# Altium footprint library BK13C06-10DS_2-0.35V_895__0.pcblib: 1 footprints
Each footprint in its own frame and in the unit in brackets; x right, y up, seen from the top. Pads: shape width x height; smd on the part's side, far side on the other; paste and mask are expansions set on the pad; w line width, h text height; cw(c..) or ccw(c..) is an arc to the next point about the centre after c.
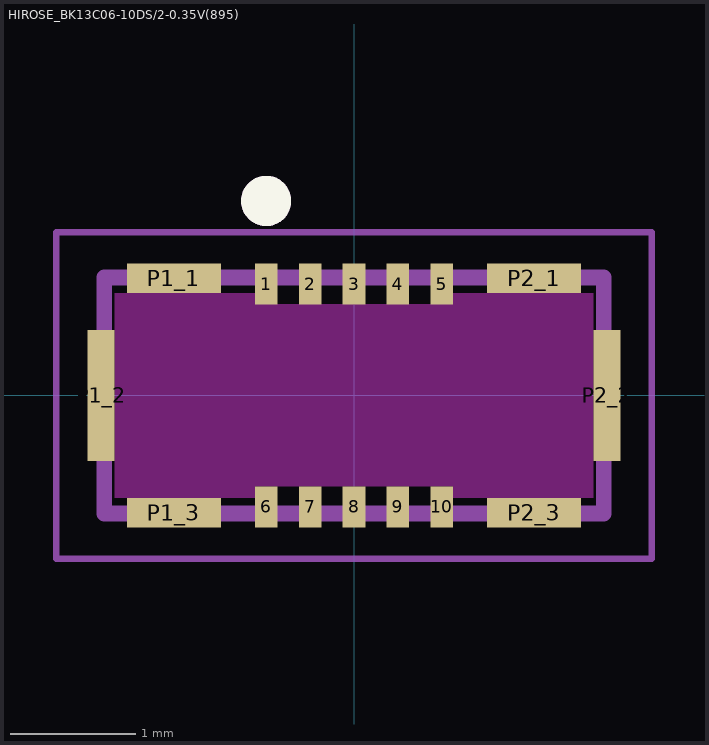
[diagram p0: the footprint, top view; thin cyan lines are the x and y axes]

## HIROSE_BK13C06-10DS/2-0.35V(895) [mm]
height 0.65
pads (16):
  rect 0.18x0.325 smd paste+0 mask+0.05: 1(-0.7,0.887) 2(-0.35,0.887) 3(0,0.887) 4(0.35,0.887) 5(0.7,0.887) 6(-0.7,-0.887) 7(-0.35,-0.887) 8(0,-0.887) 9(0.35,-0.887) 10(0.7,-0.887)
  rect 0.75x0.235 smd paste+0 mask+0.102: P1_1(-1.435,0.933) P1_3(-1.435,-0.933) P2_1(1.435,0.933) P2_3(1.435,-0.933)
  rect 0.215x1.04 smd paste+0 mask+0.102: P1_2(-2.015,0) P2_2(2.015,0)
Top Overlay:
  circle w0.2: c-0.7,1.55 r0.1
Keep-Out Layer:
  region: 1.907,-0.815 0.79,-0.815 0.79,-0.725 -0.79,-0.725 -0.79,-0.815 -1.907,-0.815 -1.907,0.815 -0.79,0.815 -0.79,0.725 0.79,0.725 0.79,0.815 1.907,0.815
Assembly Top:
  circle w0.2: c-0.7,1.55 r0.1
  lines w0.127: -1.99,-0.94 -1.99,0.94 1.99,0.94 1.99,-0.94 -1.99,-0.94
Courtyard Top:
  lines w0.05: -2.372,-1.3 -2.372,1.3 2.372,1.3 2.372,-1.3 -2.372,-1.3